# Altium footprint library PCB - CONNECTOR - PHOENIX - PHOENIX 1727052.PcbLib: 1 footprints
Each footprint in its own frame and in the unit in brackets; x right, y up, seen from the top. Pads: shape width x height; smd on the part's side, far side on the other; paste and mask are expansions set on the pad; w line width, h text height; cw(c..) or ccw(c..) is an arc to the next point about the centre after c.
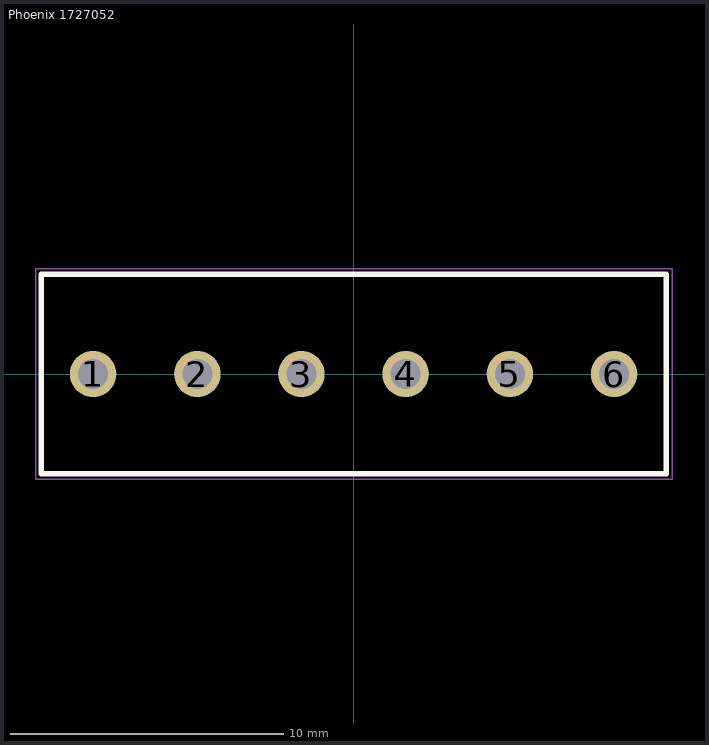
[diagram p0: the footprint, top view; thin cyan lines are the x and y axes]

## Phoenix 1727052 [mm] "Wire to Board Terminal Block Horizontal with Board Through Hole, 6 Position,3.81 mm Pitch, 22.86x7.3 mm Body"
height 8.5
pads (6):
  round 1.7 hole 1.1: 1(-9.525,0) 2(-5.715,0) 3(-1.905,0) 4(1.905,0) 5(5.715,0) 6(9.525,0)
Top Overlay:
  lines w0.2: -11.43,-3.65 -11.43,3.65 11.43,3.65 11.43,-3.65 -11.43,-3.65
Mechanical 1:
  lines w0.1: -11.43,-3.65 -11.43,3.65 11.43,3.65 11.43,-3.65 -11.43,-3.65
Mechanical 15 (Mech15):
  lines w0.05: -11.62,-3.85 -11.62,3.85 11.65,3.85 11.65,-3.85 -11.62,-3.85
3D body "Phoenix Contact - 1727052 v2.step": height 8.5, standoff -3.5, extent -11.43,-3.65 11.43,3.65